# Altium schematic symbol library Fuse.SchLib: 1 symbol
Pins are listed as number, name and electrical type; pins without a type are passive.

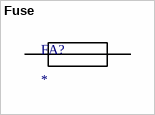
[diagram p0: symbol Fuse]

## Fuse
designator FA?
Desc: *; Current: *; Package: *; PartNumber: *; ComponentLink1Description: Datasheet; ComponentLink1URL: *; ComponentLink2Description: Source; ComponentLink2URL: *
footprint FCM1608KF-601T05
pins: 1, 2